# Altium schematic symbol library Schlib1.SchLib: 1 symbol
Pins are listed as number, name and electrical type; pins without a type are passive.

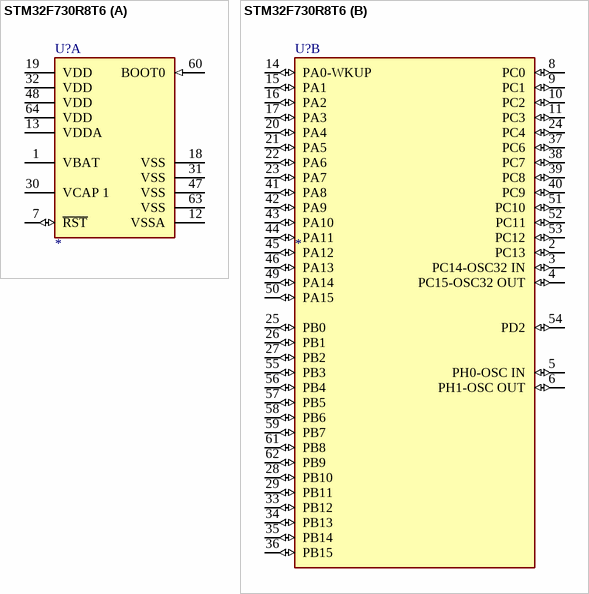
[diagram p0: symbol STM32F730R8T6]

## STM32F730R8T6
designator U?
STMICROELECTRONICS - STM32F730R8T6 - ARM MCU, STM32 Family STM32F7 Series Microcontrollers, ARM Cortex-M7, 32bit, 216 MHz, 64 KB, 256 KB; Supplier 1: Newark; Manufacturer: STMicroelectronics; Manufacturer Part Number: STM32F730R8T6; RoHS: No; Category: Microcontrollers; Stock 1: 20; Pricing 1: 1=4.30000, 10=3.73000, 25=3.59000, 50=3.44000, 100=3.30000, 250=3.15000, 500=2.87000 (USD); ComponentLink1URL: http://www.farnell.com/datasheets/2710920.pdf?src-supplier=Farnell; ComponentLink1Description: http://www.farnell.com/datasheets/2710920.pdf?src-supplier=Farnell; ComponentLink2URL: https://www.st.com/resource/en/errata_sheet/dm00305994.pdf?src-supplier=Digi-Key; ComponentLink2Description: https://www.st.com/resource/en/errata_sheet/dm00305994.pdf?src-supplier=Digi-Key; Supplier Part Number 1: 84AC2893
footprint FP-LQFP64-5W-IPC_C
part A pins: 1 VBAT (power), 7 ~{RST} (io), 12 VSSA (power), 13 VDDA (power), 18 VSS (power), 19 VDD (power), 30 VCAP 1 (power), 31 VSS (power), 32 VDD (power), 47 VSS (power), 48 VDD (power), 60 BOOT0 (in), 63 VSS (power), 64 VDD (power)
part B pins: 2 PC13 (io), 3 PC14-OSC32 IN (io), 4 PC15-OSC32 OUT (io), 5 PH0-OSC IN (io), 6 PH1-OSC OUT (io), 8 PC0 (io), 9 PC1 (io), 10 PC2 (io), 11 PC3 (io), 14 PA0-WKUP (io), 15 PA1 (io), 16 PA2 (io), 17 PA3 (io), 20 PA4 (io), 21 PA5 (io), 22 PA6 (io), 23 PA7 (io), 24 PC4 (io), 25 PB0 (io), 26 PB1 (io), 27 PB2 (io), 28 PB10 (io), 29 PB11 (io), 33 PB12 (io), 34 PB13 (io), 35 PB14 (io), 36 PB15 (io), 37 PC6 (io), 38 PC7 (io), 39 PC8 (io), 40 PC9 (io), 41 PA8 (io), 42 PA9 (io), 43 PA10 (io), 44 PA11 (io), 45 PA12 (io), 46 PA13 (io), 49 PA14 (io), 50 PA15 (io), 51 PC10 (io), 52 PC11 (io), 53 PC12 (io), 54 PD2 (io), 55 PB3 (io), 56 PB4 (io), 57 PB5 (io), 58 PB6 (io), 59 PB7 (io), 61 PB8 (io), 62 PB9 (io)